# Altium footprint library Connectors.PcbLib: 28 footprints (part 2 of 2)
Each footprint in its own frame and in the unit in brackets; x right, y up, seen from the top. Pads: shape width x height; smd on the part's side, far side on the other; paste and mask are expansions set on the pad; w line width, h text height; cw(c..) or ccw(c..) is an arc to the next point about the centre after c.
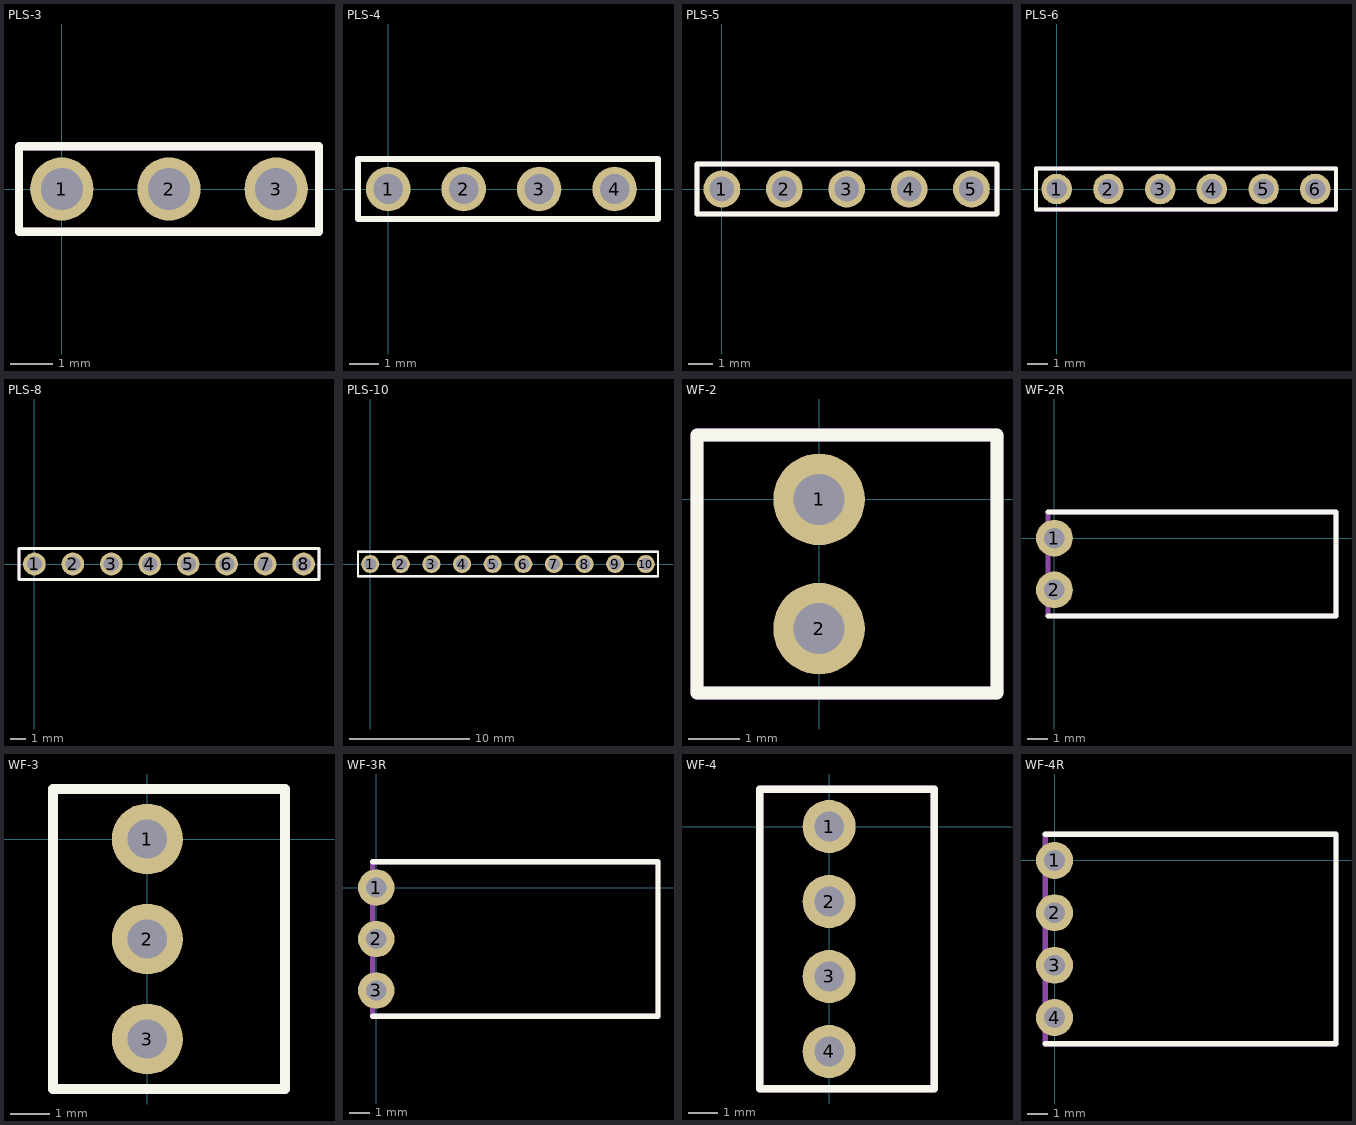
[diagram p1: the footprints below, top view; thin cyan lines are the x and y axes]

## PLS-3 [mm]
pads (3):
  round 1.5 hole 1: 1(0,0) 2(2.54,0) 3(5.08,0)
Top Overlay:
  lines w0.2: -1.016,-1.016 6.096,-1.016 6.096,1.016 -1.016,1.016 -1.016,-1.016
TopAssy:
  lines w0.2: -1.016,-1.016 -1.016,1.016 6.096,1.016 6.096,-1.016 -1.016,-1.016
3D body "User Library-PLS-3.step": height 8.54, standoff -3, extent -1.27,-1.27 6.35,1.27

## PLS-4 [mm]
pads (4):
  round 1.5 hole 1: 1(0,0) 2(2.54,0) 3(5.08,0) 4(7.62,0)
Top Overlay:
  lines w0.2: -1.016,-1.016 -1.016,1.016 9.08,1.016 9.08,-1.016 -1.016,-1.016
TopAssy:
  lines w0.2: -1.016,-1.016 9.08,-1.016 9.08,1.016 -1.016,1.016 -1.016,-1.016
3D body "User Library-PLD-4-1.step": height 8.7, standoff -2.94, extent -1.33,-1.27 8.83,1.27

## PLS-5 [mm]
pads (5):
  round 1.5 hole 1: 1(0,0) 2(2.54,0) 3(5.08,0) 4(7.62,0) 5(10.16,0)
Top Overlay:
  lines w0.2: -1.016,-1.016 11.2,-1.016 11.2,1.016 -1.016,1.016 -1.016,-1.016
TopAssy:
  lines w0.2: -1.016,-1.016 -1.016,1.016 11.2,1.016 11.2,-1.016 -1.016,-1.016
3D body "User Library-PLS-5.step": height 8.54, standoff -3, extent -1.25,-1.24 11.45,1.3

## PLS-6 [mm]
pads (6):
  round 1.5 hole 1: 1(0,0) 2(2.54,0) 3(5.08,0) 4(7.62,0) 5(10.16,0) 6(12.7,0)
Top Overlay:
  lines w0.2: -1.016,-1.016 -1.016,1.016 13.716,1.016 13.716,-1.016 -1.016,-1.016
TopAssy:
  lines w0.2: -1.016,-1.016 13.716,-1.016 13.716,1.016 -1.016,1.016 -1.016,-1.016
3D body "User Library-PLS-6-1.step": height 8.54, standoff -3, extent -1.27,-1.27 13.97,1.27

## PLS-8 [mm]
pads (8):
  round 1.5 hole 1: 1(0,0) 2(2.54,0) 3(5.08,0) 4(7.62,0) 5(10.16,0) 6(12.7,0) 7(15.24,0) 8(17.78,0)
Top Overlay:
  lines w0.2: -1.016,-1.016 18.796,-1.016 18.796,1.016 -1.016,1.016 -1.016,-1.016
TopAssy:
  lines w0.2: -1.016,-1.016 -1.016,1.016 18.796,1.016 18.796,-1.016 -1.016,-1.016
3D body "User Library-PLS-08.step": height 8.54, standoff -3, extent -1.27,-1.27 19.05,1.27

## PLS-10 [mm]
pads (10):
  round 1.5 hole 1: 1(0,0) 2(2.54,0) 3(5.08,0) 4(7.62,0) 5(10.16,0) 6(12.7,0) 7(15.24,0) 8(17.78,0) 9(20.32,0) 10(22.86,0)
Top Overlay:
  lines w0.2: -1.016,-1.016 23.876,-1.016 23.876,1.016 -1.016,1.016 -1.016,-1.016
TopAssy:
  lines w0.2: -1.016,-1.016 -1.016,1.016 23.876,1.016 23.876,-1.016 -1.016,-1.016
3D body "User Library-PLS-10.step": height 8.54, standoff -3, extent -1.27,-1.27 24.13,1.27

## WF-2 [mm]
pads (2):
  round 1.8 hole 1: 1(0,0) 2(0,-2.54)
Top Overlay:
  lines w0.254: -2.4,-3.81 3.5,-3.81 ; -2.4,-3.81 -2.4,-3.81 ; -2.4,-3.81 -2.4,1.27 3.5,1.27 3.5,-3.81 ; 3.5,-3.81 3.5,-3.81
TopAssy:
  lines w0.254: -2.4,-3.81 3.5,-3.81 ; -2.4,-3.81 -2.4,-3.81 ; -2.4,-3.81 -2.4,1.27 3.5,1.27 ; 3.5,-3.81 3.5,1.27 ; 3.5,-3.81 3.5,-3.81 ; 3.5,1.27 3.5,1.27
3D body "User Library-DS1070-2 (WF-2 CONNFLY).step": height 11.4, standoff -3.3, extent -2.4,-3.81 3.5,1.27

## WF-2R [mm]
pads (2):
  round 1.8 hole 1: 1(0,0) 2(0,-2.54)
Top Overlay:
  lines w0.254: -0.32,1.27 13.78,1.27 13.78,-3.81 ; -0.32,-3.81 13.78,-3.81 ; -0.32,-3.81 -0.32,-3.81 ; 13.78,-3.81 13.78,-3.81
TopAssy:
  lines w0.254: -0.32,1.27 13.78,1.27 13.78,-3.81 ; -0.32,1.27 -0.32,-3.81 13.78,-3.81 ; -0.32,1.27 -0.32,1.27 ; 13.78,-3.81 13.78,-3.81
3D body "User Library-DS1070-2MR (WF-2RA CONNFLY).step": height 5.9, standoff -3.4, extent -0.32,-3.81 13.78,1.27

## WF-3 [mm]
pads (3):
  round 1.8 hole 1: 1(0,0) 2(0,-2.54) 3(0,-5.08)
Top Overlay:
  lines w0.254: -2.4,-6.35 3.5,-6.35 3.5,1.27 -2.4,1.27 -2.4,-6.35 ; -2.4,-6.35 -2.4,-6.35
TopAssy:
  lines w0.254: -2.4,-6.35 3.5,-6.35 ; -2.4,-6.35 -2.4,-6.35 ; -2.4,-6.35 -2.4,1.27 3.5,1.27 ; 3.5,-6.35 3.5,1.27 ; 3.5,-6.35 3.5,-6.35 ; 3.5,1.27 3.5,1.27
3D body "User Library-DS1070-3 (WF-3 CONNFLY).step": height 11.4, standoff -3.3, extent -2.4,-6.35 3.5,1.27

## WF-3R [mm]
pads (3):
  round 1.8 hole 1: 1(0,0) 2(0,-2.54) 3(0,-5.08)
Top Overlay:
  lines w0.254: -0.192,-6.35 13.908,-6.35 13.908,1.27 -0.192,1.27
TopAssy:
  lines w0.254: -0.192,-6.35 -0.192,1.27 13.908,1.27 13.908,-6.35 -0.192,-6.35
3D body "User Library-DS1070-3MR (WF-3RA CONNFLY).step": height 5.9, standoff -3.4, extent -0.192,-6.35 13.908,1.27

## WF-4 [mm]
pads (4):
  round 1.8 hole 1: 1(0,0) 2(0,-2.54) 3(0,-5.08) 4(0,-7.62)
Top Overlay:
  lines w0.254: -2.344,-8.89 -2.344,1.27 3.556,1.27 3.556,-8.89 -2.344,-8.89 ; -2.344,-8.89 -2.344,-8.89
TopAssy:
  lines w0.254: -2.344,-8.89 -2.344,1.27 ; -2.344,-8.89 -2.344,-8.89 ; -2.344,-8.89 3.556,-8.89 3.556,1.27 -2.344,1.27 ; -2.344,1.27 -2.344,1.27
3D body "User Library-DS1070-4 (WF-4 CONNFLY).step": height 11.4, standoff -3.3, extent -2.344,-8.89 3.556,1.27

## WF-4R [mm]
pads (4):
  round 1.8 hole 1: 1(0,0) 2(0,-2.54) 3(0,-5.08) 4(0,-7.62)
Top Overlay:
  lines w0.254: -0.446,-8.89 13.654,-8.89 13.654,1.27 -0.446,1.27
TopAssy:
  lines w0.254: -0.446,-8.89 -0.446,1.27 13.654,1.27 13.654,-8.89 -0.446,-8.89
3D body "User Library-DS1070-4MR (WF-4RA CONNFLY).step": height 5.9, standoff -3.4, extent -0.446,-8.89 13.654,1.27